# Altium footprint library CAPC2012X060B.PcbLib: 3 footprints
Each footprint in its own frame and in the unit in brackets; x right, y up, seen from the top. Pads: shape width x height; smd on the part's side, far side on the other; paste and mask are expansions set on the pad; w line width, h text height; cw(c..) or ccw(c..) is an arc to the next point about the centre after c.
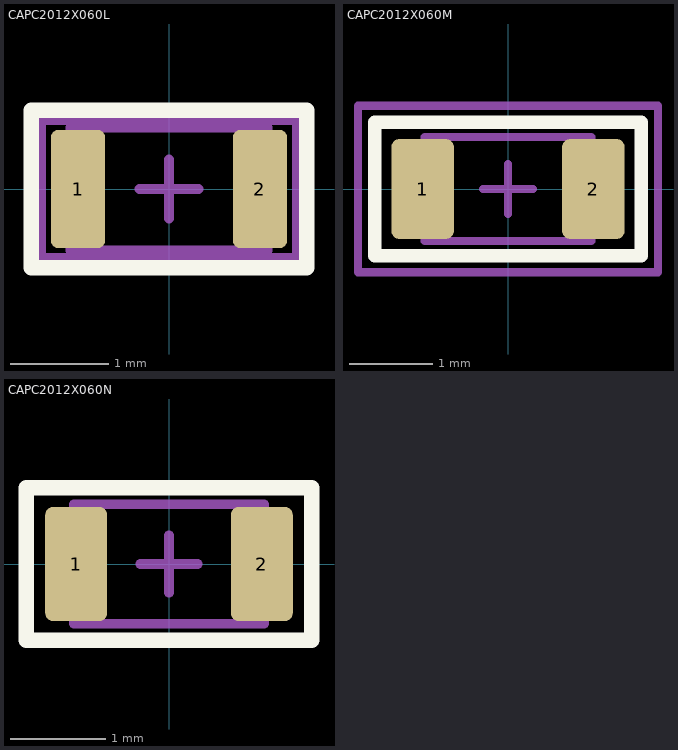
[diagram p0: the footprints below, top view; thin cyan lines are the x and y axes]

## CAPC2012X060L [mm] "Capacitors, Chip, Non-polarized"
height 0.7
pads (2):
  rrect25% 0.55x1.2 smd: 1(-0.925,0) 2(0.925,0)
Top Overlay:
  lines w0.16: -1.4,-0.8 1.4,-0.8 1.4,0.8 -1.4,0.8 -1.4,-0.8
Top Component Center:
  lines w0.1: -0.3,0 0.3,0 ; 0,-0.3 0,0.3
Top Courtyard:
  lines w0.1: -1.3,-0.7 1.3,-0.7 1.3,0.7 -1.3,0.7 -1.3,-0.7
Top Assembly:
  lines w0.1: -1,-0.625 1,-0.625 1,0.625 -1,0.625 -1,-0.625
  text ".Designator" at 0,0 h1
3D body "CAPC2012X060L.STEP": height 0.6, standoff 0, extent -1,-0.625 1,0.625

## CAPC2012X060M [mm] "Capacitors, Chip, Non-polarized"
height 0.7
pads (2):
  rrect25% 0.75x1.2 smd: 1(-1.025,0) 2(1.025,0)
Top Overlay:
  lines w0.16: -1.6,-0.8 1.6,-0.8 1.6,0.8 -1.6,0.8 -1.6,-0.8
Top Component Center:
  lines w0.1: -0.3,0 0.3,0 ; 0,-0.3 0,0.3
Top Courtyard:
  lines w0.1: -1.8,-1 1.8,-1 1.8,1 -1.8,1 -1.8,-1
Top Assembly:
  lines w0.1: -1,-0.625 1,-0.625 1,0.625 -1,0.625 -1,-0.625
  text ".Designator" at 0,0 h1
3D body "CAPC2012X060M.STEP": height 0.6, standoff 0, extent -1,-0.625 1,0.625

## CAPC2012X060N [mm] "Capacitors, Chip, Non-polarized"
height 0.7
pads (2):
  rrect25% 0.65x1.2 smd: 1(-0.975,0) 2(0.975,0)
Top Overlay:
  lines w0.16: -1.5,-0.8 1.5,-0.8 1.5,0.8 -1.5,0.8 -1.5,-0.8
Top Component Center:
  lines w0.1: -0.3,0 0.3,0 ; 0,-0.3 0,0.3
Top Courtyard:
  lines w0.1: -1.5,-0.8 1.5,-0.8 1.5,0.8 -1.5,0.8 -1.5,-0.8
Top Assembly:
  lines w0.1: -1,-0.625 1,-0.625 1,0.625 -1,0.625 -1,-0.625
  text ".Designator" at 0,0 h1
3D body "CAPC2012X060N.STEP": height 0.6, standoff 0, extent -1,-0.625 1,0.625